# EAGLE library part SENSOR-ADXL335 (library Discrete)
Small,Low Power,3-Axis+/-3g Accelerometer
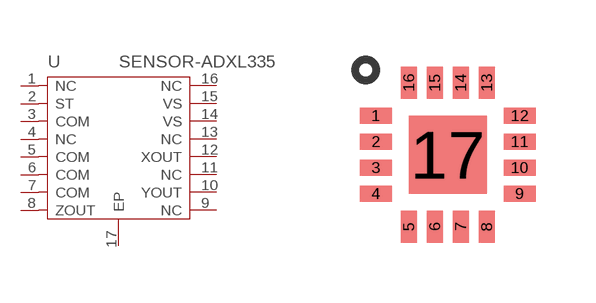
[diagram p11: symbol with the pads of LFCSP16-4X4; footprint LFCSP16-4X4]

Designator prefix U

## SENSOR-ADXL335LFCSP_LQ_16  [LFCSP16-4X4]
1  NC  nc
2  ST
3  COM
4  NC  nc
5  COM
6  COM
7  COM
8  ZOUT
9  NC  nc
10  YOUT
11  NC  nc
12  XOUT
13  NC  nc
14  VS
15  VS
16  NC  nc
17  EP

## Footprint LFCSP16-4X4 (pad centres in mm)
smd 0.8 x 0.4: 1 -1.8,0.975; 2 -1.8,0.325; 3 -1.8,-0.325; 4 -1.8,-0.975; 9 1.8,-0.975; 10 1.8,-0.325; 11 1.8,0.325; 12 1.8,0.975
smd 0.4 x 0.8: 5 -0.975,-1.8; 6 -0.325,-1.8; 7 0.325,-1.8; 8 0.975,-1.8; 13 0.975,1.8; 14 0.325,1.8; 15 -0.325,1.8; 16 -0.975,1.8
smd 1.95 x 1.95: 17 0,0